# EAGLE library part JST-PH6 (library jst-ph-xh)
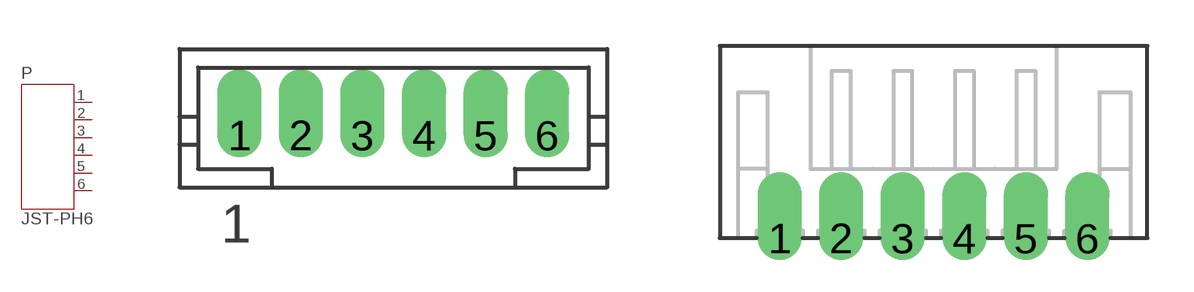
[diagram p0: symbol with the pads of JST-PH6; footprints JST-PH6, JST-PH6S]

Designator prefix P

## JST-PH6B  [JST-PH6]
1  1  pas
2  2  pas
3  3  pas
4  4  pas
5  5  pas
6  6  pas

## JST-PH6S  [JST-PH6S]
Pads as for JST-PH6

## Footprint JST-PH6 (pad centres in mm)
drill 0.813 pad 1.422 offset: 1 -5,0; 2 -3,0; 3 -1,0; 4 1,0; 5 3,0; 6 5,0

## Footprint JST-PH6S (pad centres in mm)
drill 0.8 pad 1.422 offset: 1 -5,0; 2 -3,0; 3 -1,0; 4 1,0; 5 3,0; 6 5,0